# Altium footprint library EwgOpto.PcbLib: 21 footprints (part 2 of 2)
Each footprint in its own frame and in the unit in brackets; x right, y up, seen from the top. Pads: shape width x height; smd on the part's side, far side on the other; paste and mask are expansions set on the pad; w line width, h text height; cw(c..) or ccw(c..) is an arc to the next point about the centre after c.
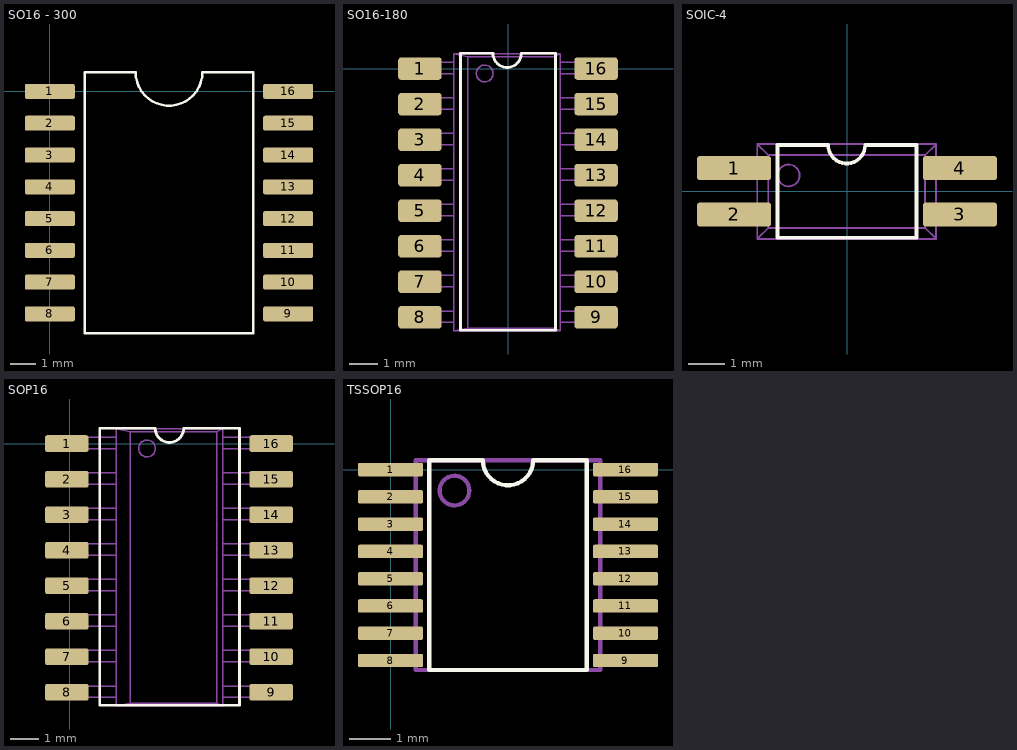
[diagram p1: the footprints below, top view; thin cyan lines are the x and y axes]

## SO16 - 300 [mm]
pads (16):
  rrect25% 2x0.6 smd: 1(0,0) 2(0,-1.27) 3(0,-2.54) 4(0,-3.81) 5(0,-5.08) 6(0,-6.35) 7(0,-7.62) 8(0,-8.89) 9(9.525,-8.89) 10(9.525,-7.62) 11(9.525,-6.35) 12(9.525,-5.08) 13(9.525,-3.81) 14(9.525,-2.54) 15(9.525,-1.27) 16(9.525,0)
Top Overlay:
  lines w0.1: 1.397,-9.652 8.128,-9.652 8.128,0.762 6.096,0.762 cw(c4.763,0.762) 3.429,0.762 1.397,0.762 1.397,-9.652
3D body: height 2.65, standoff 0, extent -0.324,-9.595 9.976,0.705

## SO16-180 [mm]
pads (16):
  rrect25% 1.55x0.8 smd: 1(-3.15,0) 2(-3.15,-1.27) 3(-3.15,-2.54) 4(-3.15,-3.81) 5(-3.15,-5.08) 6(-3.15,-6.35) 7(-3.15,-7.62) 8(-3.15,-8.89) 9(3.15,-8.89) 10(3.15,-7.62) 11(3.15,-6.35) 12(3.15,-5.08) 13(3.15,-3.81) 14(3.15,-2.54) 15(3.15,-1.27) 16(3.15,0)
Top Overlay:
  lines w0.1: -1.7,-9.349 -1.7,0.551 -0.54,0.551 ccw(c-0.032,0.551) 0.476,0.551 1.7,0.551 1.7,-9.349 -1.7,-9.349
Mechanical 1:
  circle w0.05: c-0.835,-0.175 r0.3
  lines w0.05: -2.535,-9.065 -2.535,-8.665 ; -2.535,-7.795 -2.535,-7.395 ; -2.535,-6.525 -2.535,-6.125 ; -2.535,-5.255 -2.535,-4.855 ; -2.535,-3.985 -2.535,-3.585 ; -2.535,-2.715 -2.535,-2.315 ; -2.535,-1.445 -2.535,-1.045 ; -2.535,-0.175 -2.535,0.225 ; -1.935,-9.065 -3.035,-9.065 -3.035,-8.665 -1.935,-8.665 ; -1.935,-7.795 -3.035,-7.795 -3.035,-7.395 -1.935,-7.395 ; -1.935,-6.525 -3.035,-6.525 -3.035,-6.125 -1.935,-6.125 ; -1.935,-5.255 -3.035,-5.255 -3.035,-4.855 -1.935,-4.855 ; -1.935,-3.985 -3.035,-3.985 -3.035,-3.585 -1.935,-3.585 ; -1.935,-2.715 -3.035,-2.715 -3.035,-2.315 -1.935,-2.315 ; -1.935,-1.445 -3.035,-1.445 -3.035,-1.045 -1.935,-1.045 ; -1.935,-0.175 -3.035,-0.175 -3.035,0.225 -1.935,0.225 ; 1.865,-9.065 2.965,-9.065 2.965,-8.665 1.865,-8.665 ; 1.865,-7.795 2.965,-7.795 2.965,-7.395 1.865,-7.395 ; 1.865,-6.525 2.965,-6.525 2.965,-6.125 1.865,-6.125 ; 1.865,-5.255 2.965,-5.255 2.965,-4.855 1.865,-4.855 ; 1.865,-3.985 2.965,-3.985 2.965,-3.585 1.865,-3.585 ; 1.865,-2.715 2.965,-2.715 2.965,-2.315 1.865,-2.315 ; 1.865,-1.445 2.965,-1.445 2.965,-1.045 1.865,-1.045 ; 1.865,-0.175 2.965,-0.175 2.965,0.225 1.865,0.225 ; 2.465,-9.065 2.465,-8.665 ; 2.465,-7.795 2.465,-7.395 ; 2.465,-6.525 2.465,-6.125 ; 2.465,-5.255 2.465,-4.855 ; 2.465,-3.985 2.465,-3.585 ; 2.465,-2.715 2.465,-2.315 ; 2.465,-1.445 2.465,-1.045 ; 2.465,-0.175 2.465,0.225 ; -1.935,-9.375 -1.435,-9.275 ; -1.935,-9.375 -1.935,0.525 ; -1.935,-9.375 1.865,-9.375 ; -1.935,0.525 -1.435,0.425 ; -1.935,0.525 1.865,0.525 ; -1.435,-9.275 -1.435,0.425 ; -1.435,-9.275 1.665,-9.275 ; -1.435,0.425 1.665,0.425 ; 1.665,-9.275 1.865,-9.375 ; 1.665,-9.275 1.665,0.425 ; 1.665,0.425 1.865,0.525 ; 1.865,-9.375 1.865,0.525
3D body: height 1.7, standoff -0.05, extent -3.16,-9.424 3.04,0.576

## SOIC-4 [mil]
pads (4):
  rrect25% 80x26 smd: 1(-121.81,25) 2(-121.81,-25) 3(121.81,-25) 4(121.81,25)
Top Overlay:
  lines w3.94: -75,-50 75,-50 75,50 19.61,50 cw(c-0.39,50) -20.39,50 -75,50 -75,-50
Mechanical 1:
  circle w1.97: c-62.99,17.13 r11.81
  lines w1.97: -116.38,-32.87 -116.38,-17.13 ; -116.38,16.93 -116.38,32.68 ; -96.69,-32.87 -140,-32.87 -140,-17.13 -96.69,-17.13 ; -96.69,16.93 -140,16.93 -140,32.68 -96.69,32.68 ; 96.69,-32.87 140,-32.87 140,-17.13 96.69,-17.13 ; 96.69,17.13 140,17.13 140,32.87 96.69,32.87 ; 116.38,-32.87 116.38,-17.13 ; 116.38,17.13 116.38,32.87 ; -96.85,-51.38 -96.85,50.98 ; -96.85,-51.38 -85.04,-39.57 ; -96.85,-51.38 96.06,-51.38 ; -96.85,50.98 -85.04,39.17 ; -96.85,50.98 96.06,50.98 ; -85.04,-39.57 -85.04,39.17 ; -85.04,-39.57 84.25,-39.57 ; -85.04,39.17 84.25,39.17 ; 84.25,-39.57 84.25,39.17 ; 84.25,-39.57 96.06,-51.38 ; 84.25,39.17 96.06,50.98 ; 96.06,-51.38 96.06,50.98
3D body: height 66.93, standoff -1.97, extent -122.05,-47.83 122.05,44.69

## SOP16 [mm]
pads (16):
  rrect25% 1.55x0.6 smd: 1(-0.1,0) 2(-0.1,-1.27) 3(-0.1,-2.54) 4(-0.1,-3.81) 5(-0.1,-5.08) 6(-0.1,-6.35) 7(-0.1,-7.62) 8(-0.1,-8.89) 9(7.205,-8.89) 10(7.205,-7.62) 11(7.205,-6.35) 12(7.205,-5.08) 13(7.205,-3.81) 14(7.205,-2.54) 15(7.205,-1.27) 16(7.205,0)
Top Overlay:
  lines w0.1: 1.076,-9.349 6.076,-9.349 6.076,0.551 4.076,0.551 cw(c3.568,0.551) 3.06,0.551 1.076,0.551 1.076,-9.349
Mechanical 1:
  circle w0.05: c2.765,-0.175 r0.3
  lines w0.05: 1.065,-9.065 1.065,-8.665 ; 1.065,-7.795 1.065,-7.395 ; 1.065,-6.525 1.065,-6.125 ; 1.065,-5.255 1.065,-4.855 ; 1.065,-3.985 1.065,-3.585 ; 1.065,-2.715 1.065,-2.315 ; 1.065,-1.445 1.065,-1.045 ; 1.065,-0.175 1.065,0.225 ; 1.665,-9.065 0.565,-9.065 0.565,-8.665 1.665,-8.665 ; 1.665,-7.795 0.565,-7.795 0.565,-7.395 1.665,-7.395 ; 1.665,-6.525 0.565,-6.525 0.565,-6.125 1.665,-6.125 ; 1.665,-5.255 0.565,-5.255 0.565,-4.855 1.665,-4.855 ; 1.665,-3.985 0.565,-3.985 0.565,-3.585 1.665,-3.585 ; 1.665,-2.715 0.565,-2.715 0.565,-2.315 1.665,-2.315 ; 1.665,-1.445 0.565,-1.445 0.565,-1.045 1.665,-1.045 ; 1.665,-0.175 0.565,-0.175 0.565,0.225 1.665,0.225 ; 5.465,-9.065 6.565,-9.065 6.565,-8.665 5.465,-8.665 ; 5.465,-7.795 6.565,-7.795 6.565,-7.395 5.465,-7.395 ; 5.465,-6.525 6.565,-6.525 6.565,-6.125 5.465,-6.125 ; 5.465,-5.255 6.565,-5.255 6.565,-4.855 5.465,-4.855 ; 5.465,-3.985 6.565,-3.985 6.565,-3.585 5.465,-3.585 ; 5.465,-2.715 6.565,-2.715 6.565,-2.315 5.465,-2.315 ; 5.465,-1.445 6.565,-1.445 6.565,-1.045 5.465,-1.045 ; 5.465,-0.175 6.565,-0.175 6.565,0.225 5.465,0.225 ; 6.065,-9.065 6.065,-8.665 ; 6.065,-7.795 6.065,-7.395 ; 6.065,-6.525 6.065,-6.125 ; 6.065,-5.255 6.065,-4.855 ; 6.065,-3.985 6.065,-3.585 ; 6.065,-2.715 6.065,-2.315 ; 6.065,-1.445 6.065,-1.045 ; 6.065,-0.175 6.065,0.225 ; 1.665,-9.375 5.465,-9.375 ; 1.665,-9.375 1.665,0.525 ; 1.665,-9.375 2.165,-9.275 ; 1.665,0.525 5.465,0.525 ; 1.665,0.525 2.165,0.425 ; 2.165,-9.275 5.265,-9.275 ; 2.165,-9.275 2.165,0.425 ; 2.165,0.425 5.265,0.425 ; 5.265,-9.275 5.265,0.425 ; 5.265,-9.275 5.465,-9.375 ; 5.265,0.425 5.465,0.525 ; 5.465,-9.375 5.465,0.525
3D body: height 1.7, standoff -0.05, extent 0.44,-9.424 6.64,0.576

## TSSOP16 [mm]
pads (16):
  rrect25% 1.55x0.32 smd: 1(0,0) 2(0,-0.65) 3(0,-1.3) 4(0,-1.95) 5(0,-2.6) 6(0,-3.25) 7(0,-3.9) 8(0,-4.55) 9(5.6,-4.55) 10(5.6,-3.9) 11(5.6,-3.25) 12(5.6,-2.6) 13(5.6,-1.95) 14(5.6,-1.3) 15(5.6,-0.65) 16(5.6,0)
Top Overlay:
  lines w0.1: 0.925,-4.775 0.925,0.225 2.2,0.225 ccw(c2.8,0.225) 3.4,0.225 4.675,0.225 4.675,-4.775 0.925,-4.775
Mechanical 1:
  circle w0.1: c1.525,-0.5 r0.354
  lines w0.1: 0.6,0.225 0.6,-2.275 0.6,-4.775 2.8,-4.775 5,-4.775 5,-2.275 5,0.225 2.8,0.225 ; 0.6,0.225 2.8,0.225 ; 0.6,0.225 2.8,0.225
3D body: height 1.2, standoff 0, extent -0.45,-4.825 6.05,0.275